# Altium footprint library Capacitor_THT.PcbLib: 5 footprints
Each footprint in its own frame and in the unit in brackets; x right, y up, seen from the top. Pads: shape width x height; smd on the part's side, far side on the other; paste and mask are expansions set on the pad; w line width, h text height; cw(c..) or ccw(c..) is an arc to the next point about the centre after c.
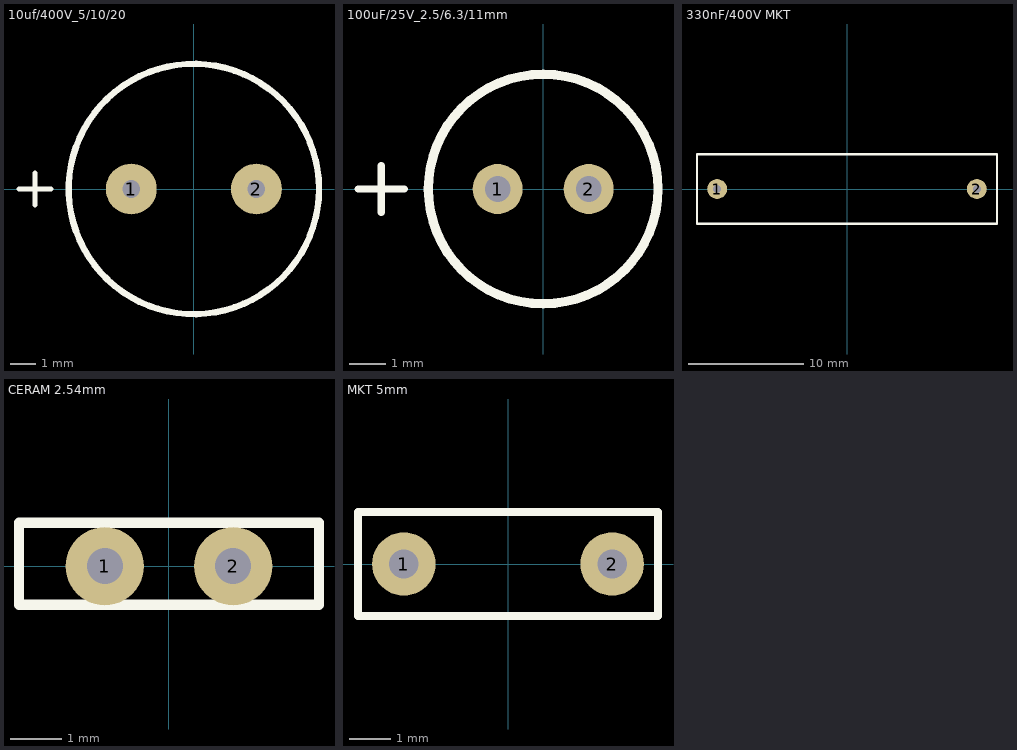
[diagram p0: the footprints below, top view; thin cyan lines are the x and y axes]

## 10uf/400V_5/10/20 [mil]
height 787.4
pads (2):
  round 80 hole 27.56: 1(-98.43,0) 2(98.43,0)
Top Overlay:
  circle w10: c0,0 r196.85
  lines w7.87: -275,0 -225,0 ; -250,-25 -250,25
3D body: height 787.48, standoff -129.92, extent -196.85,-196.85 196.93,196.85

## 100uF/25V_2.5/6.3/11mm [mil]
height 433.07
pads (2):
  round 54 hole 27.56: 1(-49.21,0) 2(49.21,0)
Top Overlay:
  circle w10: c0,0 r124.02
  lines w7.87: -200,0 -150,0 ; -175,-25 -175,25
3D body: height 433.07, standoff -748.03, extent -123.03,-124.02 125,124.02

## 330nF/400V MKT [mil]
height 255.91
pads (2):
  round 68 hole 27.56: 1(-442.91,0) 2(442.91,0)
Top Overlay:
  lines w7.87: -511.81,-118.11 -511.81,118.11 511.81,118.11 511.81,-118.11 -511.81,-118.11
3D body: height 629.92, standoff -78.74, extent -511.8,-118.5 511.82,118.12

## CERAM 2.54mm [mil]
pads (2):
  round 60 hole 27.56: 1(-49.21,0) 2(49.21,0)
Top Overlay:
  lines w7.87: -114.96,-29.53 115,-29.53 115,33.39 43.36,33.39 -36.63,33.39 -114.96,33.39 -114.96,-29.53
3D body: height 233.11, standoff -78.74, extent -114.96,-33.39 115,33.4

## MKT 5mm [mil]
height 255.91
pads (2):
  round 60 hole 27.56: 1(-98.43,0) 2(98.43,0)
Top Overlay:
  lines w7.87: -141.73,-49.21 -141.73,49.21 141.73,49.21 141.73,-49.21 -141.73,-49.21
3D body: height 255.91, standoff -118.11, extent -141.73,-49.21 141.73,49.22